# Altium footprint library Driver2_TI.PcbLib: 4 footprints
Each footprint in its own frame and in the unit in brackets; x right, y up, seen from the top. Pads: shape width x height; smd on the part's side, far side on the other; paste and mask are expansions set on the pad; w line width, h text height; cw(c..) or ccw(c..) is an arc to the next point about the centre after c.
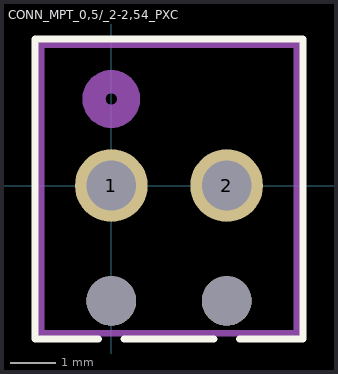
[diagram p0: the footprints below, top view; thin cyan lines are the x and y axes]

## CONN_MPT_0,5/_2-2,54_PXC [mil]
pads (4):
  round 63 hole 43: 1(0,0) 2(100,0)
  round 43 hole 43 unplated: ""(0,-100) ""(100,-100)
Top Overlay:
  lines w6: -11,-133 -66,-133 -66,127 166,127 166,-133 111,-133 ; 11,-133 89,-133
Mechanical 13:
  lines w6: -61,-128 161,-128 161,122 -61,122 -61,-128
  lines w20: -15,75 ccw(c0,75) 15,75 ccw(c0,75) -15,75

## HUBC2512-1MFT18 [mil]
3D body "c-1625953-2-b-3d.stp": height 0, standoff -5511.81, extent -618.03,-610.55 558.03,570.55

## HUBC2512-1MFT18 - duplicate [mil]
3D body "c-1625953-2-b-3d.stp": height 0, standoff -5511.81, extent -618.03,-610.55 558.03,570.55

## MCMHR63V104M4X7 [mil]